# EAGLE library part TPS2552 (library usb power switch)
TSP2552 Precision adjustable current-limited power distribution switch
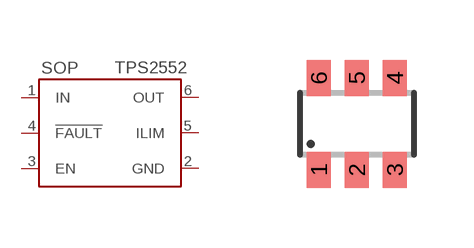
[diagram p0: symbol with the pads of USB_PWR_SWT_SOP; footprint USB_PWR_SWT_SOP]

Designator prefix SOP

## TPS2552SOP  [USB_PWR_SWT_SOP]
1  IN  in
2  GND  pwr
3  EN  in
4  !FAULT  out
5  ILIM  out
6  OUT  out

## Footprint USB_PWR_SWT_SOP (pad centres in mm)
smd 0.6 x 0.9: 1 -0.938,-1.151; 2 0.012,-1.151; 3 0.962,-1.151; 4 0.962,1.149; 5 0.012,1.149; 6 -0.938,1.149